# EAGLE library part SP3012-06UTG (library DIODES)
7V (Typ) Clamp 4A (8/20µs) Ipp Tvs Diode Surface Mount 14-UDFN (3.5x1.35)
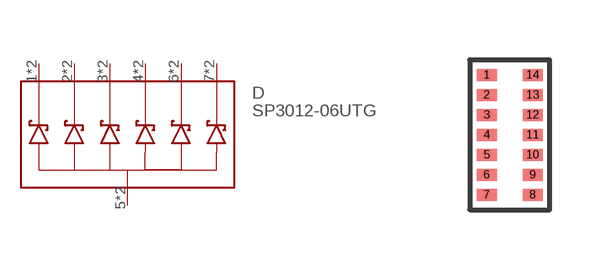
[diagram p0: symbol with the pads of SP3012-06UTG; footprint SP3012-06UTG]

Designator prefix D

## SP3012-06UTG (DIGIKEY: F5914CT-ND; HEIGHT: 1; PRICE_PER: 0.91; VALUE: SP3012-06UTG)  [SP3012-06UTG]
1  K1
2  K2
3  K3
4  K4
5  GND
6  K5
7  K6
8  K6
9  K5
10  GND
11  K4
12  K3
13  K2
14  K1

## Footprint SP3012-06UTG (pad centres in mm)
smd 0.5 x 0.3: 1 -0.575,1.5; 2 -0.575,1; 3 -0.575,0.5; 4 -0.575,0; 5 -0.575,-0.5; 6 -0.575,-1; 7 -0.575,-1.5; 8 0.575,-1.5; 9 0.575,-1; 10 0.575,-0.5; 11 0.575,0; 12 0.575,0.5; 13 0.575,1; 14 0.575,1.5